# EAGLE library part MAX202* (library Maxim Integrated)
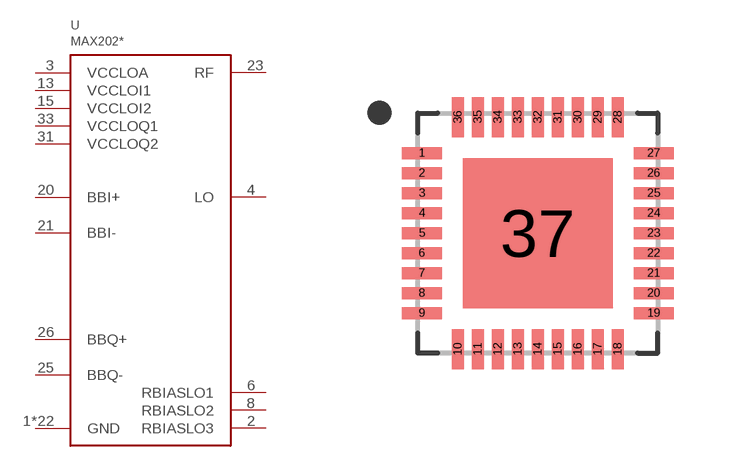
[diagram p10: symbol with the pads of QFN36; footprint QFN36]

Designator prefix -

## MAX2021, MAX2022, MAX2023  [QFN36]
1  GND
2  RBIASLO3
3  VCCLOA
4  LO
5  GND
6  RBIASLO1
8  RBIASLO2
9  GND
10  GND
11  GND
12  GND
13  VCCLOI1
14  GND
15  VCCLOI2
16  GND
17  GND
18  GND
19  GND
20  BBI+
21  BBI-
22  GND
23  RF
24  GND
25  BBQ-
26  BBQ+
27  GND
28  GND
29  GND
30  GND
31  VCCLOQ2
32  GND
33  VCCLOQ1
34  GND
35  GND
36  GND
37  GND

## Footprint QFN36 (pad centres in mm)
smd 1 x 0.3: 1 -2.9,2; 2 -2.9,1.5; 3 -2.9,1; 4 -2.9,0.5; 5 -2.9,0; 6 -2.9,-0.5; 7 -2.9,-1; 8 -2.9,-1.5; 9 -2.9,-2; 19 2.9,-2; 20 2.9,-1.5; 21 2.9,-1; 22 2.9,-0.5; 23 2.9,0; 24 2.9,0.5; 25 2.9,1; 26 2.9,1.5; 27 2.9,2
smd 0.3 x 1: 10 -2,-2.9; 11 -1.5,-2.9; 12 -1,-2.9; 13 -0.5,-2.9; 14 0,-2.9; 15 0.5,-2.9; 16 1,-2.9; 17 1.5,-2.9; 18 2,-2.9; 28 2,2.9; 29 1.5,2.9; 30 1,2.9; 31 0.5,2.9; 32 0,2.9; 33 -0.5,2.9; 34 -1,2.9; 35 -1.5,2.9; 36 -2,2.9
smd 3.75 x 3.75: 37 0,0